# Altium footprint library 28pins_Project_V1I1.PcbLib: 29 footprints (part 1 of 2)
Each footprint in its own frame and in the unit in brackets; x right, y up, seen from the top. Pads: shape width x height; smd on the part's side, far side on the other; paste and mask are expansions set on the pad; w line width, h text height; cw(c..) or ccw(c..) is an arc to the next point about the centre after c.
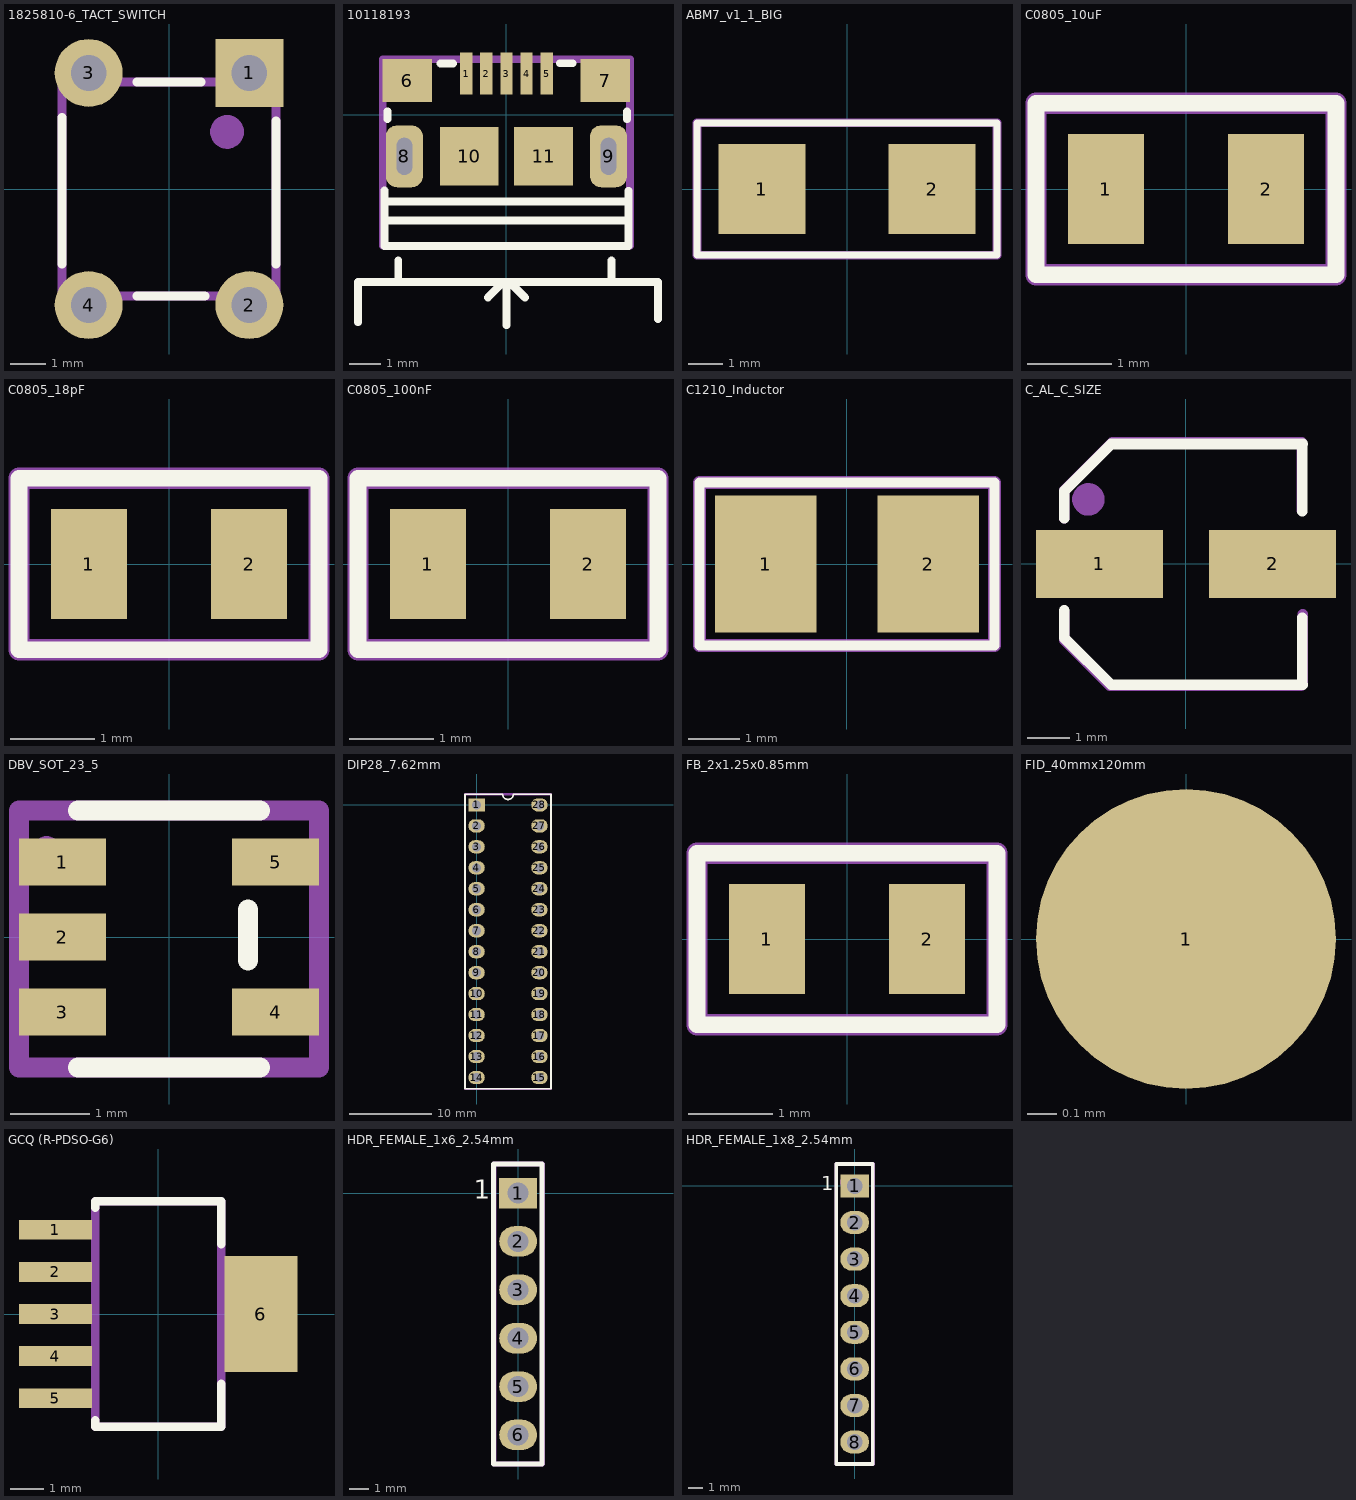
[diagram p0: the footprints below, top view; thin cyan lines are the x and y axes]

## 28_DIP_7.62mm_SOCKET [mm]
3D body "dil_socket.stp": height 4.2, standoff -3.17, extent -5.05,-17.75 5.05,17.75

## 1825810-6_TACT_SWITCH [mm]
pads (4):
  rect 1.9x1.9 hole 1: 1(2.25,3.25)
  round 1.9 hole 1: 2(2.25,-3.25) 3(-2.25,3.25) 4(-2.25,-3.25)
Top Overlay:
  lines w0.254: -3,-2.1 -3,0 -3,2 ; -0.9,-3 1,-3 ; -0.9,3 0.9,3 ; 3,-2.1 3,0 3,1.9
Mechanical 29:
  circle w0.5: c1.624,1.6 r0.224
  lines w0.254: -3,-3 -3,1.9 -3,3 3,3 3,-3 -3,-3
  text ".Designator" at -1.746,-0.638 h1.52
3D body "User Library-FSM4JLH(1825910-5).step": height 5, standoff -3.51, extent -2.995,-3.898 2.995,3.9

## 10118193 [mm]
pads (11):
  rect 0.4x1.35 smd mask+0.05: 1(-1.3,1.338) 2(-0.65,1.338) 3(0,1.338) 4(0.65,1.338) 5(1.3,1.338)
  rect 1.6x1.4 smd: 6(-3.2,1.114) 7(3.2,1.112)
  rrect60% 1.2x2 hole 0.5 slot 1.2 at 90 deg: 8(-3.3,-1.338) 9(3.3,-1.338)
  rect 1.9x1.9 smd: 10(-1.2,-1.338) 11(1.2,-1.338)
Top Overlay:
  lines w0.254: -4.8,-6.7 -4.8,-6.2 -4.8,-5.4 -2.375,-5.4 2.475,-5.4 4.9,-5.4 4.9,-6.6 ; -3.94,-4.24 3.95,-4.24 ; -3.94,-4.2 -3.94,-2.71 -3.94,-2.44 ; -3.92,-3.41 3.88,-3.41 ; -3.85,-0.13 -3.85,0.12 ; -3.5,-5.4 -3.5,-4.7 ; -3.3,-2.8 -3.85,-2.8 3.9,-2.8 ; -2.13,1.66 -1.73,1.66 ; -0.6,-5.9 -0.1,-5.4 0,-5.4 ; 0,-6.8 0,-5.4 ; 0.6,-5.9 0.1,-5.4 0,-5.4 ; 1.73,1.67 2.13,1.67 ; 3.4,-5.4 3.4,-4.7 ; 3.9,-0.14 3.9,0.11 ; 3.95,-4.2 3.95,-2.61 3.95,-2.45
Mechanical 29:
  lines w0.254: -4,-4.23 4,-4.23 4,1.8 -4,1.8 -4,-4.23
  text ".Designator" at -3.446,-2.138 h1.52
3D body "10118193-0001lfc.stp": height 2.88, standoff -0.72, extent -3.929,-4.073 3.928,1.587

## ABM7_v1_1_BIG [mm]
pads (2):
  rect 2.5x2.6 smd: 1(-2.45,0) 2(2.45,0)
Top Overlay:
  lines w0.2: -4.318,-1.905 -4.318,1.905 4.318,1.905 4.318,-1.905 -4.318,-1.905
Mechanical 29:
  lines w0.254: -4.318,-1.905 4.318,-1.905 4.318,1.905 -4.318,1.905 -4.318,-1.905
  text ".Designator" at -0.635,-0.508 h1.52
3D body "ABM7.STEP": height 1.41, standoff 0.01, extent -2.997,-1.752 2.997,1.753

## C0805_10uF [mm]
pads (2):
  rect 0.9x1.3 smd: 1(-0.95,0) 2(0.95,0)
Top Overlay:
  lines w0.2: -1.778,-1.016 -1.778,1.016 1.778,1.016 1.778,-1.016 -1.778,-1.016
Mechanical 29:
  lines w0.254: -1.778,-1.016 1.778,-1.016 1.778,1.016 -1.778,1.016 -1.778,-1.016
  text ".Designator" at -1.27,-1.016 h1
3D body "CAPC2012X94N EIA 0805.step": height 0.95, standoff 0.01, extent -1,-0.6 1,0.6
3D body "CAPC2012X94N EIA 0805.step": height 1.45, standoff 0.51, extent -1,-0.6 1,0.6

## C0805_18pF [mm]
pads (2):
  rect 0.9x1.3 smd: 1(-0.95,0) 2(0.95,0)
Top Overlay:
  lines w0.2: -1.778,-1.016 -1.778,1.016 1.778,1.016 1.778,-1.016 -1.778,-1.016
Mechanical 29:
  lines w0.254: -1.778,-1.016 1.778,-1.016 1.778,1.016 -1.778,1.016 -1.778,-1.016
  text ".Designator" at -1.27,-1.016 h1
3D body "CAPC2012X94N EIA 0805.step": height 0.95, standoff 0.01, extent -1,-0.6 1,0.6

## C0805_100nF [mm]
pads (2):
  rect 0.9x1.3 smd: 1(-0.95,0) 2(0.95,0)
Top Overlay:
  lines w0.2: -1.778,-1.016 1.778,-1.016 1.778,1.016 -1.778,1.016 -1.778,-1.016
Mechanical 29:
  lines w0.254: -1.778,-1.016 -1.778,1.016 1.778,1.016 1.778,-1.016 -1.778,-1.016
  text ".Designator" at -1.27,-1.016 h1
3D body "CAPC2012X94N EIA 0805.step": height 0.95, standoff 0.01, extent -1,-0.6 1,0.6

## C1210_Inductor [mm]
pads (2):
  rect 2x2.7 smd: 1(-1.6,0) 2(1.6,0)
Top Overlay:
  lines w0.2: -2.9,-1.6 -2.9,-0.85 -2.9,1.6 2.9,1.6 2.9,-1.6 -2.9,-1.6
Mechanical 29:
  lines w0.254: -2.9,-1.6 2.9,-1.6 2.9,1.6 -2.9,1.6 -2.9,-1.6
  text ".Designator" at -1.446,-0.538 h1.52
3D body "INDC3225X135N EIA 1210.step": height 1.36, standoff 0.01, extent -1.6,-1.25 1.6,1.25

## C_AL_C_SIZE [mm]
pads (2):
  rect 3x1.6 smd: 1(-2.05,0) 2(2.05,0)
Top Overlay:
  lines w0.254: -2.88,-1.1 -2.88,-1.75 -1.77,-2.86 0.01,-2.86 2.76,-2.86 ; -2.88,1.08 -2.88,1.73 -1.77,2.84 0.01,2.84 2.76,2.84 ; 2.75,-2.77 2.75,-1.27 ; 2.75,1.25 2.75,2.75
Mechanical 29:
  circle w0.4: c-2.31,1.53 r0.184
  lines w0.254: -2.88,-1.14 -2.88,-1.8 -1.8,-2.88 2.72,-2.88 2.76,-2.84 2.76,-1.19 ; -2.88,1.08 -2.88,1.74 -1.74,2.88 2.74,2.88 2.74,1.27
  text ".Designator" at -2.406,-0.628 h1.52
3D body "User Library-capacitor size C.step": height 5.41, standoff -0.01, extent -2.99,-2.65 2.91,2.65

## DBV_SOT_23_5 [mm]
pads (5):
  rect 1.1x0.6 smd: 1(-1.35,0.95) 2(-1.35,0) 3(-1.35,-0.95) 4(1.35,-0.95) 5(1.35,0.95)
Top Overlay:
  lines w0.254: -1.15,-1.65 1.15,-1.65 ; -1.15,1.6 1.15,1.6 ; 1,-0.3 1,0.35
Mechanical 29:
  circle w0.254: c-1.55,1.1 r0.05
  lines w0.254: -1.9,1.6 0,1.6 1.9,1.6 1.9,-1.65 -1.9,-1.65 -1.9,1.6 ; -1.9,1.6 -1.9,1.6
  text ".Designator" at -1.25,-0.742 h1.52
3D body "User Library-TPS79333DBVR.step": height 1.61, standoff -0.01, extent -1.463,-1.525 1.564,1.525

## DIP28_7.62mm [mm]
pads (28):
  rect 2x1.6 hole 1.1: 1(0,0)
  oval 2x1.6 hole 1.1: 2(0,-2.54) 3(0,-5.08) 4(0,-7.62) 5(0,-10.16) 6(0,-12.7) 7(0,-15.24) 8(0,-17.78) 9(0,-20.32) 10(0,-22.86) 11(0,-25.4) 12(0,-27.94) 13(0,-30.48) 14(0,-33.02) 15(7.62,-33.02) 16(7.62,-30.48) 17(7.62,-27.94) 18(7.62,-25.4) 19(7.62,-22.86) 20(7.62,-20.32) 21(7.62,-17.78) 22(7.62,-15.24) 23(7.62,-12.7) 24(7.62,-10.16) 25(7.62,-7.62) 26(7.62,-5.08) 27(7.62,-2.54) 28(7.62,0)
Top Overlay:
  lines w0.2: -1.39,-34.39 1.21,-34.39 6.41,-34.39 9.01,-34.39 9.01,1.29 4.445,1.29 cw(c3.81,1.29) 3.175,1.29 -1.39,1.29 -1.39,-34.39
Mechanical 29:
  circle w0.6: c0,0 r0.31
  lines w0.254: -1.39,-34.41 -1.39,1.29 9.01,1.29 9.01,-34.41 -1.39,-34.41
  text ".Designator" at 4.936,-30.736 h3
3D body "User Library-28 pin dip-1.step": height 7.55, standoff 1.33, extent -0.164,-34.481 7.71,1.461

## FB_2x1.25x0.85mm [mm]
pads (2):
  rect 0.9x1.3 smd: 1(-0.95,0) 2(0.95,0)
Top Overlay:
  lines w0.2: -1.778,-1.016 -1.778,1.016 1.778,1.016 1.778,-1.016 -1.778,-1.016
Mechanical 29:
  lines w0.254: -1.778,-1.016 1.778,-1.016 1.778,1.016 -1.778,1.016 -1.778,-1.016
  text ".Designator" at -1.27,-1.016 h1
3D body "CAPC2012X94N EIA 0805.step": height 0.95, standoff 0.01, extent -1,-0.6 1,0.6

## FID_40mmx120mm [mil]
pads (1):
  round 40 smd paste-1574.8 mask+40: 1(0,0)

## GCQ (R-PDSO-G6) [mm]
pads (6):
  rect 2.2x0.6 smd: 1(-3.1,2.54) 2(-3.1,1.27) 3(-3.1,0) 4(-3.1,-1.27) 5(-3.1,-2.54)
  rect 2.2x3.5 smd: 6(3.1,0)
Top Overlay:
  lines w0.254: -1.9,-3.2 -1.9,-3.4 1.9,-3.4 1.9,-2.1 ; -1.9,3.2 -1.9,3.4 1.9,3.4 1.9,2.1
Mechanical 29:
  circle w0.254: c-3.95,2.6 r0.1
  lines w0.254: -1.9,-3.4 -1.9,3.4 1.9,3.4 1.9,-3.4 -1.9,-3.4
  text ".Designator" at -0.346,-0.613 h1.3
3D body "User Library-TPS73701DCQ.step": height 1.79, standoff -0.01, extent -3.63,-3.275 3.63,3.275

## HDR_FEMALE_1x6_2.54mm [mm]
pads (6):
  rect 2x1.6 hole 1.1: 1(0,0)
  oval 2x1.6 hole 1.1: 2(0,-2.54) 3(0,-5.08) 4(0,-7.62) 5(0,-10.16) 6(0,-12.7)
Top Overlay:
  lines w0.254: -1.29,-14.224 1.25,-14.224 1.25,1.524 -1.29,1.524 -1.29,-14.224
  text "1" at -2.34,-0.308 h1
Mechanical 29:
  circle w0.508: c-0.508,0.254 r0.254
  lines w0.254: -1.27,-14.224 1.27,-14.224 1.27,1.524 -1.27,1.524 -1.27,-14.224
  text ".Designator" at 0.508,-13.97 h1.52
3D body "m20-7820646_asm.stp": height 8.31, standoff -3.19, extent -1.27,-14.17 1.23,1.47

## HDR_FEMALE_1x8_2.54mm [mm]
pads (8):
  rect 2x1.6 hole 1.1: 1(0,0)
  oval 2x1.6 hole 1.1: 2(0,-2.54) 3(0,-5.08) 4(0,-7.62) 5(0,-10.16) 6(0,-12.7) 7(0,-15.24) 8(0,-17.78)
Top Overlay:
  lines w0.254: -1.29,-19.304 1.25,-19.304 1.25,1.524 -1.29,1.524 -1.29,-19.304
  text "1" at -2.34,-0.308 h1
Mechanical 29:
  circle w0.508: c-0.508,0.254 r0.254
  lines w0.254: -1.27,-19.304 1.27,-19.304 1.27,1.524 -1.27,1.524 -1.27,-19.304
  text ".Designator" at 0.508,-16.51 h1.52
3D body "m20-7820842_asm.stp": height 8.51, standoff -2.99, extent -1.25,-19.196 1.25,1.524